# EAGLE library part CC2520EM (library bbb-cc2520)
CC2520 EVM http://ti.com/tool/cc2520em_refdes
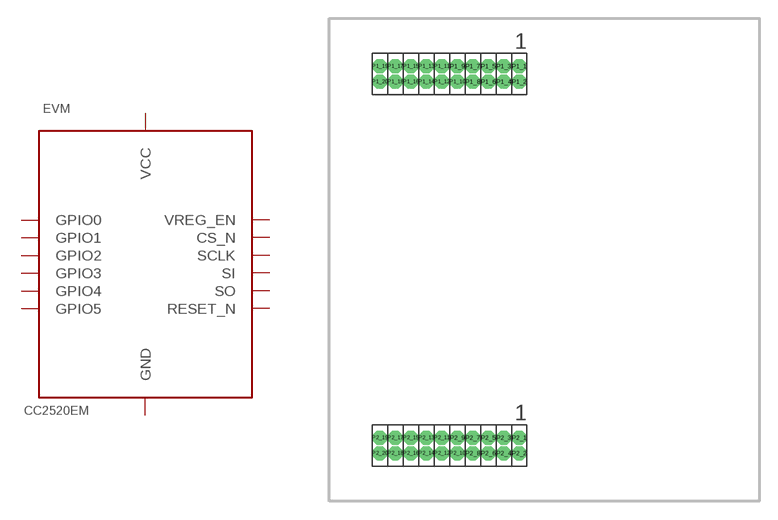
[diagram p0: symbol with the pads of TI_CC_EVM; footprint TI_CC_EVM]

Designator prefix EVM

## CC2520EM  [TI_CC_EVM]
P1_1  GND
P1_3  GPIO0
P1_7  GPIO1
P1_9  GPIO2
P1_10  VREG_EN
P1_12  GPIO3
P1_14  CS_N
P1_16  SCLK
P1_18  SI
P1_19  GND
P1_20  SO
P2_7  VCC
P2_9  VCC
P2_15  RESET_N
P2_18  GPIO4
P2_19  GPIO5

## Footprint TI_CC_EVM (pad centres in mm)
drill 0.65 octagon: P1_1 5.715,15.875; P1_2 5.715,14.605; P1_3 4.445,15.875; P1_4 4.445,14.605; P1_5 3.175,15.875; P1_6 3.175,14.605; P1_7 1.905,15.875; P1_8 1.905,14.605; P1_9 0.635,15.875; P1_10 0.635,14.605; P1_11 -0.635,15.875; P1_12 -0.635,14.605; P1_13 -1.905,15.875; P1_14 -1.905,14.605; P1_15 -3.175,15.875; P1_16 -3.175,14.605; P1_17 -4.445,15.875; P1_18 -4.445,14.605; P1_19 -5.715,15.875; P1_20 -5.715,14.605; P2_1 5.715,-14.605; P2_2 5.715,-15.875; P2_3 4.445,-14.605; P2_4 4.445,-15.875; P2_5 3.175,-14.605; P2_6 3.175,-15.875; P2_7 1.905,-14.605; P2_8 1.905,-15.875; P2_9 0.635,-14.605; P2_10 0.635,-15.875; P2_11 -0.635,-14.605; P2_12 -0.635,-15.875; P2_13 -1.905,-14.605; P2_14 -1.905,-15.875; P2_15 -3.175,-14.605; P2_16 -3.175,-15.875; P2_17 -4.445,-14.605; P2_18 -4.445,-15.875; P2_19 -5.715,-14.605; P2_20 -5.715,-15.875